# EAGLE library part PCF8574 (library SPCoast)
Remote 8-Bit I/O Expander for I²C Bus
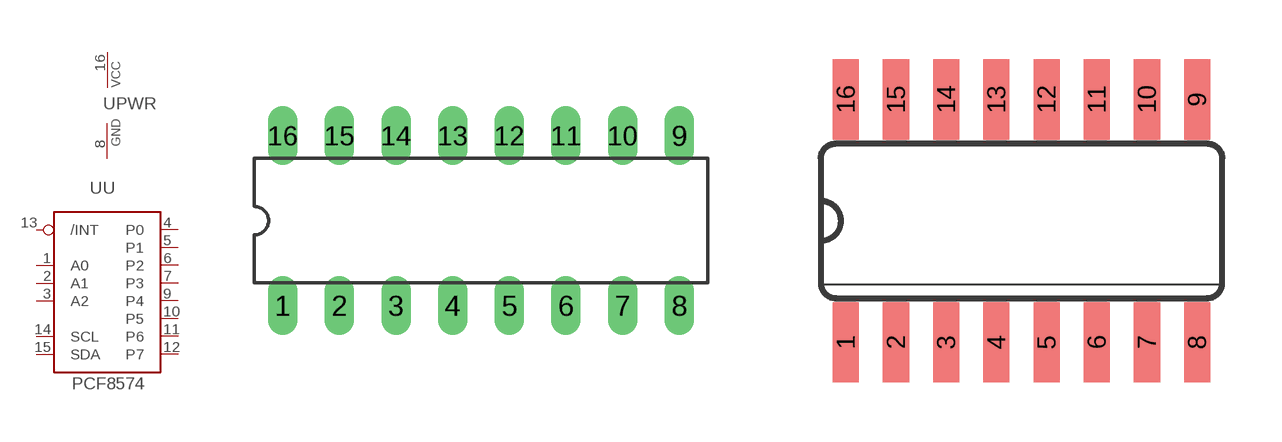
[diagram p8: symbol with the pads of DIL16; footprints DIL16, SO16]

Designator prefix U; gates PWR=PWRN U=PCF8574

## PCF8574P  [DIL16]
1  U:A0  in
2  U:A1  in
3  U:A2  in
4  U:P0
5  U:P1
6  U:P2
7  U:P3
8  PWR:GND  pwr
9  U:P4
10  U:P5
11  U:P6
12  U:P7
13  U:/INT  out
14  U:SCL  in
15  U:SDA
16  PWR:VCC  pwr

## PCF8574AP  [DIL16]
Pads as for DIL16

## PCF8574T  [SO16]
Pads as for DIL16

## PCF8574AT  [SO16]
Pads as for DIL16

## PCF8574L  [SO16L]
1  U:A0  in
2  U:A1  in
3  U:A2  in
4  U:P0
5  U:P1
6  U:P2
7  U:P3
8  PWR:VCC  pwr
9  U:P4
10  U:P5
11  U:P6
12  U:P7
13  U:/INT  out
14  U:SCL  in
15  U:SDA
16  PWR:GND  pwr

## PCF8574DW  [SO-16DW]
Pads as for DIL16

## PCF8574ADW  [SO-16DW]
Pads as for DIL16

## Footprint DIL16 (pad centres in mm)
Dual In Line
drill 0.813 long: 1 -8.89,-3.81; 2 -6.35,-3.81; 3 -3.81,-3.81; 4 -1.27,-3.81; 5 1.27,-3.81; 6 3.81,-3.81; 7 6.35,-3.81; 8 8.89,-3.81; 9 8.89,3.81; 10 6.35,3.81; 11 3.81,3.81; 12 1.27,3.81; 13 -1.27,3.81; 14 -3.81,3.81; 15 -6.35,3.81; 16 -8.89,3.81

## Footprint SO16 (pad centres in mm)
Small Outline package 150 mil
smd 0.66 x 2.032: 1 -4.445,-3.073; 2 -3.175,-3.073; 3 -1.905,-3.073; 4 -0.635,-3.073; 5 0.635,-3.073; 6 1.905,-3.073; 7 3.175,-3.073; 8 4.445,-3.073; 9 4.445,3.073; 10 3.175,3.073; 11 1.905,3.073; 12 0.635,3.073; 13 -0.635,3.073; 14 -1.905,3.073; 15 -3.175,3.073; 16 -4.445,3.073

## Footprint SO16L (pad centres in mm)
Small Outline Package
smd 0.66 x 2.032: 1 -4.445,-4.902; 2 -3.175,-4.902; 3 -1.905,-4.902; 4 -0.635,-4.902; 5 0.635,-4.902; 6 1.905,-4.902; 7 3.175,-4.902; 8 4.445,-4.902; 9 4.445,4.902; 10 3.175,4.902; 11 1.905,4.902; 12 0.635,4.902; 13 -0.635,4.902; 14 -1.905,4.902; 15 -3.175,4.902; 16 -4.445,4.902

## Footprint SO-16DW (pad centres in mm)
Small Outline Integrated Circuit wide
smd 0.6 x 2.2: 1 -4.445,-4.6; 2 -3.175,-4.6; 3 -1.905,-4.6; 4 -0.635,-4.6; 5 0.635,-4.6; 6 1.905,-4.6; 7 3.175,-4.6; 8 4.445,-4.6; 9 4.445,4.6; 10 3.175,4.6; 11 1.905,4.6; 12 0.635,4.6; 13 -0.635,4.6; 14 -1.905,4.6; 15 -3.175,4.6; 16 -4.445,4.6